# Altium footprint library TL1107BF130WQ.PcbLib: 1 footprints
Each footprint in its own frame and in the unit in brackets; x right, y up, seen from the top. Pads: shape width x height; smd on the part's side, far side on the other; paste and mask are expansions set on the pad; w line width, h text height; cw(c..) or ccw(c..) is an arc to the next point about the centre after c.
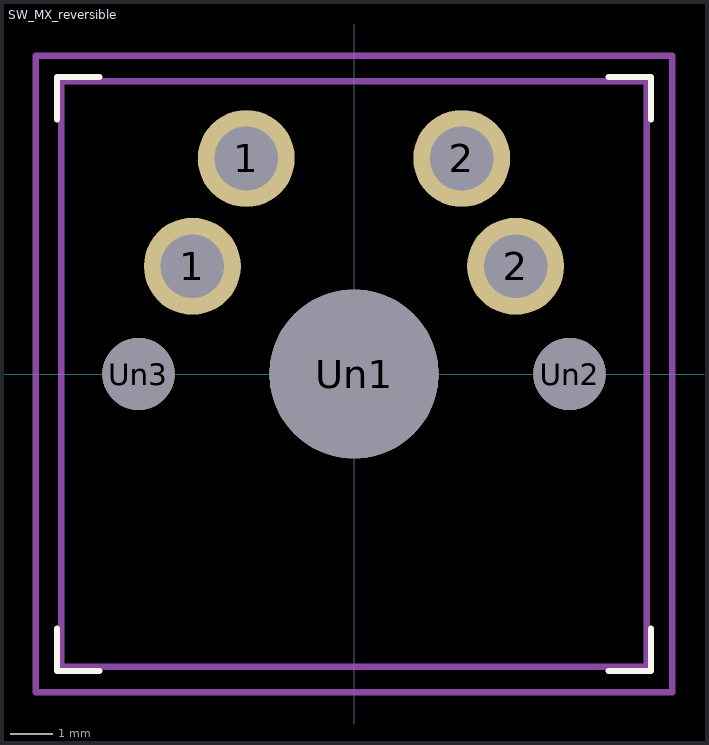
[diagram p0: the footprint, top view; thin cyan lines are the x and y axes]

## SW_MX_reversible [mil]
pads (7):
  round 90 hole 59: 1(-150,100) 1(-100,200) 2(100,200) 2(150,100)
  round 157 hole 157: Un1(0,0)
  round 67 hole 67: Un2(200,0) Un3(-200,0)
F.SilkS:
  lines w5.91: -275.59,-236.22 -275.59,-275.59 -236.22,-275.59 ; -275.59,236.22 -275.59,275.59 -236.22,275.59 ; 236.22,-275.59 275.59,-275.59 275.59,-236.22 ; 236.22,275.59 275.59,275.59 275.59,236.22
B.SilkS:
  lines w5.91: -275.59,-236.22 -275.59,-275.59 -236.22,-275.59 ; -275.59,236.22 -275.59,275.59 -236.22,275.59 ; 236.22,-275.59 275.59,-275.59 275.59,-236.22 ; 236.22,275.59 275.59,275.59 275.59,236.22
  text "'.Designator'" at 56.63,309.31 h39.37
B.Fab:
  lines w5.91: -295.28,-295.28 -295.28,295.28 295.28,295.28 295.28,-295.28 -295.28,-295.28
  text "'.Designator'" at 56.63,-15.69 h39.37
  text "'.Comment'" at 50.66,-336.88 h39.37
F.Fab:
  lines w5.91: -295.28,-295.28 -295.28,295.28 295.28,295.28 295.28,-295.28 -295.28,-295.28
  text "'.Designator'" at -56.63,-15.69 h39.37
Eco2.User:
  lines w5.91: -271.65,-271.65 -271.65,271.65 271.65,271.65 271.65,-271.65 -271.65,-271.65